# Altium footprint library LLAVE_PALANCA.PcbLib: 1 footprints
Each footprint in its own frame and in the unit in brackets; x right, y up, seen from the top. Pads: shape width x height; smd on the part's side, far side on the other; paste and mask are expansions set on the pad; w line width, h text height; cw(c..) or ccw(c..) is an arc to the next point about the centre after c.
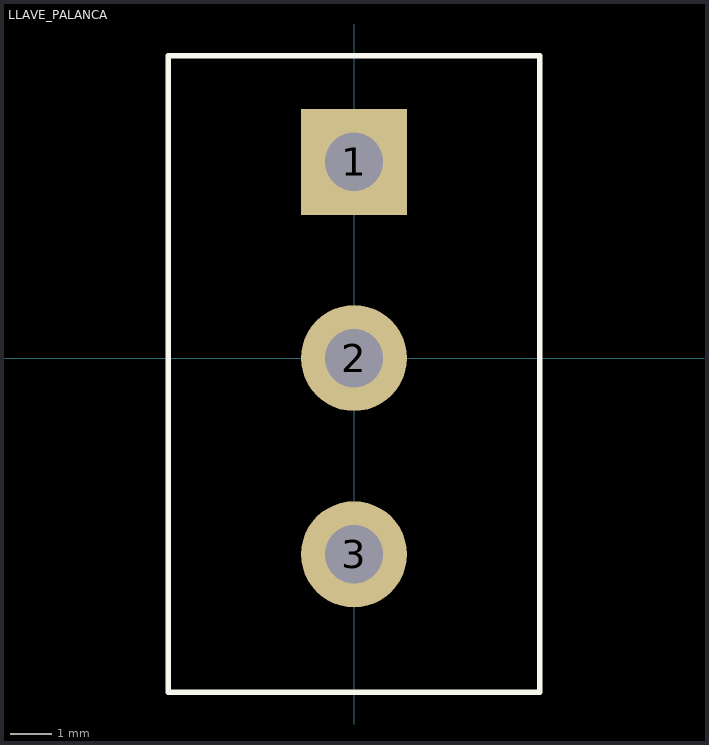
[diagram p0: the footprint, top view; thin cyan lines are the x and y axes]

## LLAVE_PALANCA [mil]
pads (3):
  rect 100x100 hole 55: 1(0,185)
  round 100 hole 55: 2(0,0) 3(0,-185)
Top Overlay:
  lines w5: -175,-315 -175,285 175,285 175,-315 -175,-315
3D body: height 1146.73, standoff -75, extent -230,-250 236.93,250